# Altium integrated library Power Module.IntLib: 16 symbols
Pins are listed as number, name and electrical type; pins without a type are passive.

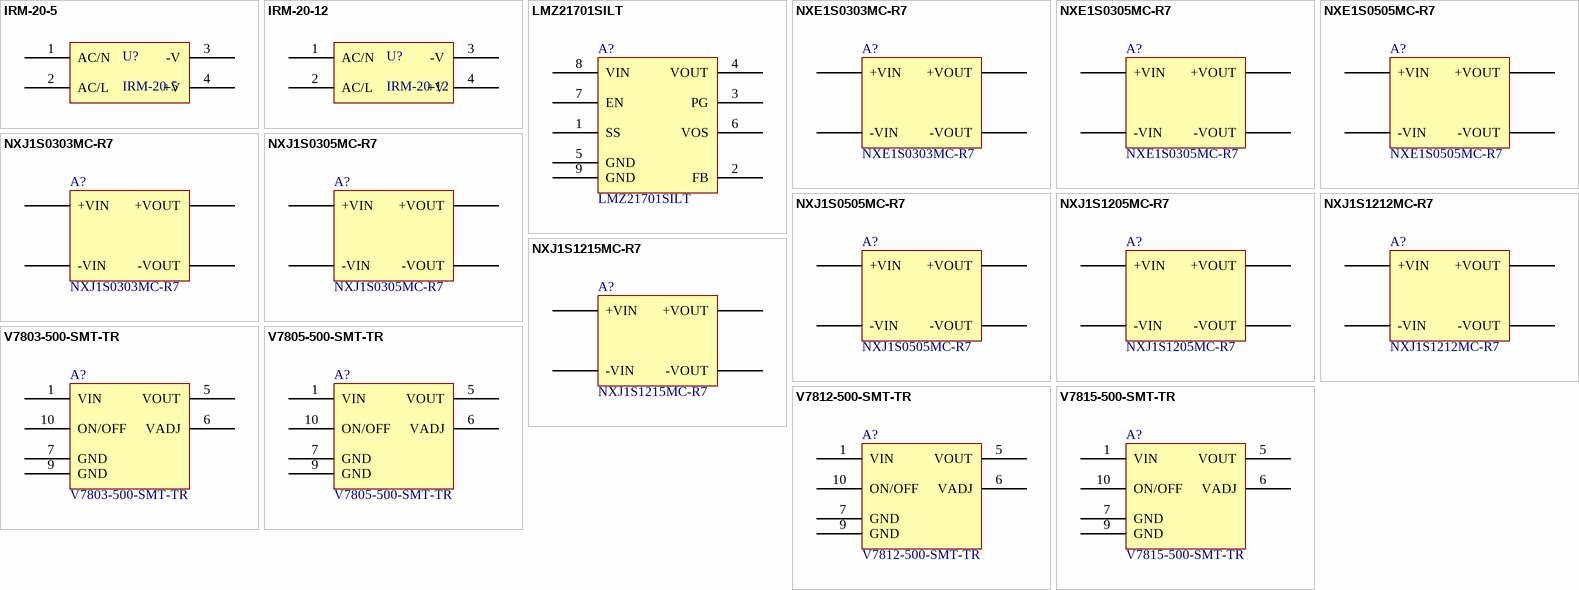
[diagram p0: symbols IRM-20-5 to V7815-500-SMT-TR]

## IRM-20-5
designator U?
20W AC-DC PCB-Mount Green Power Module; Voltage Range: 85 ~ 305VAC; EFFICIENCY (Typ.): 84%; OVERLOAD: 115%~160% rated output power; DC VOLTAGE: 5V; RATED CURRENT: 5A; Part Number: IRM-20-5; RATED POWER: 20W; ComponentLink1Description: Datasheet; ComponentLink1URL: https://www.meanwell-web.com/content/files/pdfs/productPdfs/MW/IRM-20/IRM-20-spec.pdf; Supplier 1: Digi-Key; Supplier Part Number 1: 1866-3042-ND
footprint IRM-20 (20W AC-DC PCB-Mount)
pins: 1 AC/N (power), 2 AC/L (power), 3 -V (power), 4 +V (power)

## IRM-20-12
designator U?
20W AC-DC PCB-Mount Green Power Module; Voltage Range: 85 ~ 305VAC; EFFICIENCY (Typ.): 84%; OVERLOAD: 115%~160% rated output power; DC VOLTAGE: 12V; RATED CURRENT: 1.8A; RATED POWER: 21.6W; Part Number: IRM-20-12; ComponentLink1Description: Datasheet; ComponentLink1URL: https://www.meanwell-web.com/content/files/pdfs/productPdfs/MW/IRM-20/IRM-20-spec.pdf; Supplier 1: Digi-Key; Supplier Part Number 1: 1866-3038-ND
footprint IRM-20 (20W AC-DC PCB-Mount)
pins: 1 AC/N (power), 2 AC/L (power), 3 -V (power), 4 +V (power)

## LMZ21701SILT
designator A?
DC/DC CONVERTER 0.9-6V 6W; Manufacturer: Texas Instruments; Number Of Outputs: 1; Voltage - Input (Min): 3V; Voltage - Input (Max): 17V; Voltage - Output 1: 0.9 ~ 6 V; Current - Output (Max): 1A; Part Number: LMZ21701SILT; PartId: 16764; Supplier 1: Digi-Key; Supplier Part Number 1: 296-38545-2-ND; ComponentLink1Description: Datasheet; ComponentLink1URL: http://www.ti.com/lit/ds/symlink/lmz21701.pdf; ComponentLink2Description: Digi-Key Listing; ComponentLink2URL: http://www.digikey.com/product-detail/en/texas-instruments/LMZ21701SILT/296-38545-2-ND/5034142; Price: 3.3466; Type: Non-Isolated PoL Module; Device Package: 8-SMD Module; Operating Temperature: -40C ~ 125C; Power (Watts): -; Voltage - Isolation: -
footprint TI MicroSiP-8 SIL0008E
pins: 1 SS, 2 FB, 3 PG, 4 VOUT, 5 GND, 6 VOS, 7 EN, 8 VIN, 9 GND

## NXE1S0303MC-R7
designator A?
DC/DC CONV 1W 3.3V SGL 3KV; Manufacturer: Murata Power Solutions Inc.; Number Of Outputs: 1; Voltage - Input (Min): 2.97V; Voltage - Input (Max): 3.63V; Current - Output (Max): 303mA; Voltage - Isolation: 3kV (3000V); Part Number: NXE1S0303MC-R7; PartId: 10880; Supplier 1: Digi-Key; Supplier Part Number 1: 811-3098-2-ND; ComponentLink1Description: Datasheet; ComponentLink1URL: http://power.murata.com/data/power/ncl/kdc_nxe1.pdf; ComponentLink2Description: Digi-Key Listing; ComponentLink2URL: https://www.digikey.com/product-detail/en/murata-power-solutions-inc/NXE1S0303MC-R7/811-3098-2-ND/5764730; Price: 3.06; Type: Isolated Module; Device Package: 14-SMD Module (5 Leads); Operating Temperature: -40C ~ 85C; Voltage - Output 1: 3.3V; Power (Watts): 1W
footprint MURATA NXE
pins: 1 -VIN, 3 +VIN, 7 -VOUT, 8 +VOUT

## NXE1S0305MC-R7
designator A?
DC/DC CONV 1W 3.3-5V SGL 3KV; Manufacturer: Murata Power Solutions Inc.; Number Of Outputs: 1; Voltage - Input (Min): 2.97V; Voltage - Input (Max): 3.63V; Voltage - Output 1: 5V; Current - Output (Max): 200mA; Voltage - Isolation: 3kV (3000V); Part Number: NXE1S0305MC-R7; PartId: 10881; Supplier 1: Digi-Key; Supplier Part Number 1: 811-3099-2-ND; ComponentLink1Description: Datasheet; ComponentLink1URL: http://power.murata.com/data/power/ncl/kdc_nxe1.pdf; ComponentLink2Description: Digi-Key Listing; ComponentLink2URL: https://www.digikey.com/product-detail/en/murata-power-solutions-inc/NXE1S0305MC-R7/811-3099-2-ND/5764731; Price: 3.06; Type: Isolated Module; Device Package: 14-SMD Module (5 Leads); Operating Temperature: -40C ~ 85C; Power (Watts): 1W
footprint MURATA NXE
pins: 1 -VIN, 3 +VIN, 7 -VOUT, 8 +VOUT

## NXE1S0505MC-R7
designator A?
DC/DC CONVERTER 5V 1W; Manufacturer: Murata Power Solutions Inc.; Number Of Outputs: 1; Voltage - Input (Min): 4.5V; Voltage - Input (Max): 5.5V; Current - Output (Max): 200mA; Voltage - Isolation: 3kV (3000V); Part Number: NXE1S0505MC-R7; PartId: 10879; Supplier 1: Digi-Key; Supplier Part Number 1: 811-3040-2-ND; ComponentLink1Description: Datasheet; ComponentLink1URL: http://power.murata.com/data/power/ncl/kdc_nxe1.pdf; ComponentLink2Description: Digi-Key Listing; ComponentLink2URL: https://www.digikey.com/product-detail/en/murata-power-solutions-inc/NXE1S0505MC-R7/811-3040-2-ND/5047358; Price: 3.06; Type: Isolated Module; Device Package: 14-SMD Module (5 Leads); Operating Temperature: -40C ~ 85C; Voltage - Output 1: 5V; Power (Watts): 1W
footprint MURATA NXE
pins: 1 -VIN, 3 +VIN, 7 -VOUT, 8 +VOUT

## NXJ1S0303MC-R7
designator A?
DC/DC SM 1W 3.3V-3.3V SINGLE 4.2; Manufacturer: Murata Power Solutions Inc.; Number Of Outputs: 1; Voltage - Input (Min): 2.97V; Voltage - Input (Max): 3.63V; Voltage - Output 1: 3.3V; Current - Output (Max): 333mA; Voltage - Isolation: 4.2kV (4200V); Part Number: NXJ1S0303MC-R7; PartId: 14963; Supplier 1: Digi-Key; Supplier Part Number 1: 811-3092-1-ND; ComponentLink1Description: Datasheet; ComponentLink1URL: http://power.murata.com/data/power/ncl/kdc_nxj1.pdf; ComponentLink2Description: Digi-Key Listing; ComponentLink2URL: https://www.digikey.com/product-detail/en/murata-power-solutions-inc/NXJ1S0303MC-R7/811-3092-1-ND/5697919; Price: 3.55; Type: Isolated Module; Device Package: 14-SMD Module (5 Leads); Operating Temperature: -40C ~ 85C; Power (Watts): 1W
footprint MURATA NXJ1
pins: 1 -VIN, 3 +VIN, 7 -VOUT, 8 +VOUT

## NXJ1S0305MC-R7
designator A?
DC/DC SM 1W 3.3V-5V SINGLE 4.2KV; Manufacturer: Murata Power Solutions Inc.; Number Of Outputs: 1; Voltage - Input (Min): 2.97V; Voltage - Input (Max): 3.63V; Voltage - Output 1: 5V; Current - Output (Max): 200mA; Voltage - Isolation: 4.2kV (4200V); Part Number: NXJ1S0305MC-R7; PartId: 14962; Supplier 1: Digi-Key; Supplier Part Number 1: 811-3093-1-ND; ComponentLink1Description: Datasheet; ComponentLink1URL: http://power.murata.com/data/power/ncl/kdc_nxj1.pdf; ComponentLink2Description: Digi-Key Listing; ComponentLink2URL: https://www.digikey.com/product-detail/en/murata-power-solutions-inc/NXJ1S0305MC-R7/811-3093-1-ND/5697920; Price: 3.55; Type: Isolated Module; Device Package: 14-SMD Module (5 Leads); Operating Temperature: -40C ~ 85C; Power (Watts): 1W
footprint MURATA NXJ1
pins: 1 -VIN, 3 +VIN, 7 -VOUT, 8 +VOUT

## NXJ1S0505MC-R7
designator A?
DC/DC SM 1W 5V-5V SINGLE 4.2KV; Manufacturer: Murata Power Solutions Inc.; Number Of Outputs: 1; Voltage - Input (Min): 4.5V; Voltage - Input (Max): 5.5V; Voltage - Output 1: 5V; Current - Output (Max): 200mA; Voltage - Isolation: 4.2kV (4200V); Part Number: NXJ1S0505MC-R7; PartId: 14964; Supplier 1: Digi-Key; Supplier Part Number 1: 811-3094-1-ND; ComponentLink1Description: Datasheet; ComponentLink1URL: http://power.murata.com/data/power/ncl/kdc_nxj1.pdf; ComponentLink2Description: Digi-Key Listing; ComponentLink2URL: https://www.digikey.com/product-detail/en/murata-power-solutions-inc/NXJ1S0505MC-R7/811-3094-1-ND/5697921; Price: 3.55; Type: Isolated Module; Device Package: 14-SMD Module (5 Leads); Operating Temperature: -40C ~ 85C; Power (Watts): 1W
footprint MURATA NXJ1
pins: 1 -VIN, 3 +VIN, 7 -VOUT, 8 +VOUT

## NXJ1S1205MC-R7
designator A?
DC/DC SM 1W 12V-5V SINGLE 4.2KV; Manufacturer: Murata Power Solutions Inc.; Number Of Outputs: 1; Voltage - Input (Min): 10.8V; Voltage - Input (Max): 13.2V; Voltage - Output 1: 5V; Current - Output (Max): 200mA; Voltage - Isolation: 4.2kV (4200V); Part Number: NXJ1S1205MC-R7; PartId: 14965; Supplier 1: Digi-Key; Supplier Part Number 1: 811-3095-1-ND; ComponentLink1Description: Datasheet; ComponentLink1URL: http://power.murata.com/data/power/ncl/kdc_nxj1.pdf; ComponentLink2Description: Digi-Key Listing; ComponentLink2URL: https://www.digikey.com/product-detail/en/murata-power-solutions-inc/NXJ1S1205MC-R7/811-3095-1-ND/5697922; Price: 3.55; Type: Isolated Module; Device Package: 14-SMD Module (5 Leads); Operating Temperature: -40C ~ 85C; Power (Watts): 1W
footprint MURATA NXJ1
pins: 1 -VIN, 3 +VIN, 7 -VOUT, 8 +VOUT

## NXJ1S1212MC-R7
designator A?
DC/DC SM 1W 12V-12V SINGLE 4.2KV; Manufacturer: Murata Power Solutions Inc.; Number Of Outputs: 1; Voltage - Input (Min): 10.8V; Voltage - Input (Max): 13.2V; Voltage - Output 1: 12V; Current - Output (Max): 83mA; Voltage - Isolation: 4.2kV (4200V); Part Number: NXJ1S1212MC-R7; PartId: 14966; Supplier 1: Digi-Key; Supplier Part Number 1: 811-3096-1-ND; ComponentLink1Description: Datasheet; ComponentLink1URL: http://power.murata.com/data/power/ncl/kdc_nxj1.pdf; ComponentLink2Description: Digi-Key Listing; ComponentLink2URL: https://www.digikey.com/product-detail/en/murata-power-solutions-inc/NXJ1S1212MC-R7/811-3096-1-ND/5697923; Price: 3.55; Type: Isolated Module; Device Package: 14-SMD Module (5 Leads); Operating Temperature: -40C ~ 85C; Power (Watts): 1W
footprint MURATA NXJ1
pins: 1 -VIN, 3 +VIN, 7 -VOUT, 8 +VOUT

## NXJ1S1215MC-R7
designator A?
DC/DC SM 1W 12V-15V SINGLE 4.2KV; Manufacturer: Murata Power Solutions Inc.; Number Of Outputs: 1; Voltage - Input (Min): 10.8V; Voltage - Input (Max): 13.2V; Voltage - Output 1: 15V; Current - Output (Max): 67mA; Voltage - Isolation: 4.2kV (4200V); Part Number: NXJ1S1215MC-R7; PartId: 14961; Supplier 1: Digi-Key; Supplier Part Number 1: 811-3097-1-ND; ComponentLink1Description: Datasheet; ComponentLink1URL: http://power.murata.com/data/power/ncl/kdc_nxj1.pdf; ComponentLink2Description: Digi-Key Listing; ComponentLink2URL: https://www.digikey.com/product-detail/en/murata-power-solutions-inc/NXJ1S1215MC-R7/811-3097-1-ND/5697924; Price: 3.55; Type: Isolated Module; Device Package: 14-SMD Module (5 Leads); Operating Temperature: -40C ~ 85C; Power (Watts): 1W
footprint MURATA NXJ1
pins: 1 -VIN, 3 +VIN, 7 -VOUT, 8 +VOUT

## V7803-500-SMT-TR
designator A?
CONVERT DC/DC REG 3.3V 500MA SMD; Manufacturer: CUI Inc.; Number Of Outputs: 1; Voltage - Input (Min): 4.5V; Voltage - Input (Max): 28V; Power (Watts): 1.65W; Part Number: V7803-500-SMT-TR; PartId: 16439; Supplier 1: Digi-Key; Supplier Part Number 1: 102-1957-2-ND; ComponentLink1Description: Datasheet; ComponentLink1URL: http://www.cui.com/product/resource/digikeypdf/v78-500-smt.pdf; ComponentLink2Description: Digi-Key Listing; ComponentLink2URL: https://www.digikey.com/product-detail/en/cui-inc/V7803-500-SMT-TR/102-1957-2-ND/2057053; Price: 6.342; Type: Linear Regulator Replacement; Device Package: 10-SMD Module (6 Leads); Operating Temperature: -40C ~ 85C; Voltage - Output 1: 3.3V; Current - Output (Max): 500mA
footprint CUI V78
pins: 1 VIN, 5 VOUT, 6 VADJ, 7 GND, 9 GND, 10 ON/OFF

## V7805-500-SMT-TR
designator A?
CONVERTER DC/DC REG 5V 500MA SMD; Manufacturer: CUI Inc.; Number Of Outputs: 1; Voltage - Input (Min): 6V; Voltage - Input (Max): 28V; Power (Watts): 2.5W; Part Number: V7805-500-SMT-TR; PartId: 16438; Supplier 1: Digi-Key; Supplier Part Number 1: 102-1958-2-ND; ComponentLink1Description: Datasheet; ComponentLink1URL: http://www.cui.com/product/resource/digikeypdf/v78-500-smt.pdf; ComponentLink2Description: Digi-Key Listing; ComponentLink2URL: https://www.digikey.com/product-detail/en/cui-inc/V7805-500-SMT-TR/102-1958-2-ND/2057054; Price: 6.342; Type: Linear Regulator Replacement; Device Package: 10-SMD Module (6 Leads); Operating Temperature: -40C ~ 85C; Voltage - Output 1: 5V; Current - Output (Max): 500mA
footprint CUI V78
pins: 1 VIN, 5 VOUT, 6 VADJ, 7 GND, 9 GND, 10 ON/OFF

## V7812-500-SMT-TR
designator A?
CONVERT DC/DC REG 12V 500MA SMD; Manufacturer: CUI Inc.; Number Of Outputs: 1; Voltage - Input (Min): 14V; Voltage - Input (Max): 28V; Power (Watts): 6W; Part Number: V7812-500-SMT-TR; PartId: 16440; Supplier 1: Digi-Key; Supplier Part Number 1: 102-1959-2-ND; ComponentLink1Description: Datasheet; ComponentLink1URL: http://www.cui.com/product/resource/digikeypdf/v78-500-smt.pdf; ComponentLink2Description: Digi-Key Listing; ComponentLink2URL: https://www.digikey.com/product-detail/en/cui-inc/V7812-500-SMT-TR/102-1959-2-ND/2057055; Price: 6.342; Type: Linear Regulator Replacement; Device Package: 10-SMD Module (6 Leads); Operating Temperature: -40C ~ 85C; Voltage - Output 1: 12V; Current - Output (Max): 500mA
footprint CUI V78
pins: 1 VIN, 5 VOUT, 6 VADJ, 7 GND, 9 GND, 10 ON/OFF

## V7815-500-SMT-TR
designator A?
CONVERT DC/DC REG 15V 500MA SMD; Manufacturer: CUI Inc.; Number Of Outputs: 1; Voltage - Input (Min): 17V; Voltage - Input (Max): 28V; Power (Watts): 7.5W; Part Number: V7815-500-SMT-TR; PartId: 16441; Supplier 1: Digi-Key; Supplier Part Number 1: 102-1960-2-ND; ComponentLink1Description: Datasheet; ComponentLink1URL: http://www.cui.com/product/resource/digikeypdf/v78-500-smt.pdf; ComponentLink2Description: Digi-Key Listing; ComponentLink2URL: https://www.digikey.com/product-detail/en/cui-inc/V7815-500-SMT-TR/102-1960-2-ND/2057056; Price: 6.342; Type: Linear Regulator Replacement; Device Package: 10-SMD Module (6 Leads); Operating Temperature: -40C ~ 85C; Voltage - Output 1: 15V; Current - Output (Max): 500mA
footprint CUI V78
pins: 1 VIN, 5 VOUT, 6 VADJ, 7 GND, 9 GND, 10 ON/OFF